# Altium schematic symbol library Logic.SchLib: 4 symbols
Pins are listed as number, name and electrical type; pins without a type are passive.

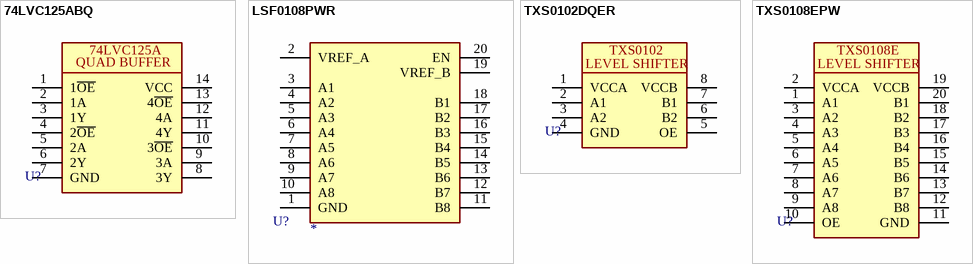
[diagram p0: symbols 74LVC125ABQ to TXS0108EPW]

## 74LVC125ABQ
designator U?
Buffer, Non-Inverting 4 Element 1 Bit per Element 3-State Output 14-DHVQFN (2.5x3); Manufacturer 1: Nexperia USA Inc.; Manufacturer Part Number 1: *; Value: *
footprint 74LVC125ABQ (IC BUF NON-INVERT 3.6V 14DHVQFN)
pins: 1 1~{OE}, 2 1A, 3 1Y, 4 2~{OE}, 5 2A, 6 2Y, 7 GND, 8 3Y, 9 3A, 10 3~{OE}, 11 4Y, 12 4A, 13 4~{OE}, 14 VCC
text: 74LVC125A; QUAD BUFFER

## LSF0108PWR
designator U?, comment ERP_121-1  (value not drawn)
Voltage Level Translator Bidirectional 1 Circuit 8 Channel 20-TSSOP; Manufacturer Part Number 1: LSF0108PWR; ERP: *; Suuplier Part Number 1: *; Supplier 1: *; Manufacturer 1: *; Package: TSSOP20; Value: *
footprint LSF0108PWR
pins: 1 GND, 2 VREF_A, 3 A1, 4 A2, 5 A3, 6 A4, 7 A5, 8 A6, 9 A7, 10 A8, 11 B8, 12 B7, 13 B6, 14 B5, 15 B4, 16 B3, 17 B2, 18 B1, 19 VREF_B, 20 EN

## TXS0102DQER
designator U?
Voltage Level Translator Bidirectional 1 Circuit 2 Channel 24Mbps 8-X2SON (1.4x1); Manufacturer 1: Texas Instruments; Manufacturer Part Number 1: *; Package: 8-XFDFN; Value: *
footprint TXS0102DQER (Footprint not found)
pins: 1 VCCA, 2 A1, 3 A2, 4 GND, 5 OE, 6 B2, 7 B1, 8 VCCB
text: TXS0102; LEVEL SHIFTER

## TXS0108EPW
designator U?
Voltage Level Translator Bidirectional 1 Circuit 8 Channel 60Mbps 20-TSSOP; Manufacturer 1: Texas Instruments; Manufacturer Part Number 1: *; Package: 20-TSSOP; Value: *
footprint TXS0108EPW (Voltage Level Translator Bidirectional 1 Circuit 8 Channel 60Mbps 20-TSSOP)
pins: 1 A1, 2 VCCA, 3 A2, 4 A3, 5 A4, 6 A5, 7 A6, 8 A7, 9 A8, 10 OE, 11 GND, 12 B8, 13 B7, 14 B6, 15 B5, 16 B4, 17 B3, 18 B2, 19 VCCB, 20 B1
text: TXS0108E; LEVEL SHIFTER